# EAGLE library part M74HC133B1R (library ST_Microelctronics_By_element14_Batch_1)
13 INPUT NAND GATE
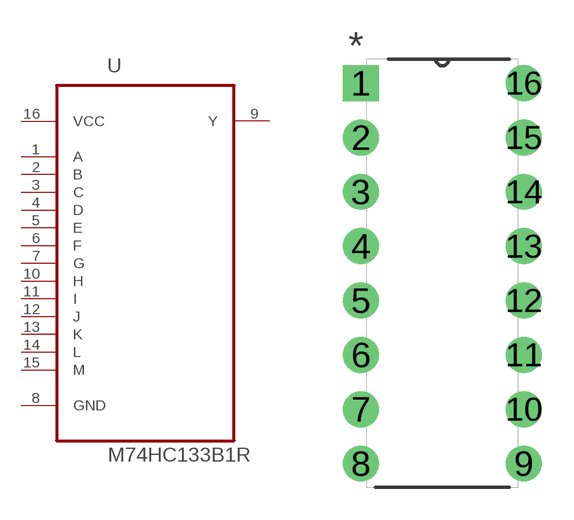
[diagram p217: symbol with the pads of DIP254P762X510-16; footprint DIP254P762X510-16]

Designator prefix U

## M74HC133B1R (MPN: M74HC133B1R; OC_FARNELL: 1282853; OC_NEWARK: 89K0859; PACKAGE: PDIP-16; SUPPLIER: STMICROELECTRONICS)  [DIP254P762X510-16]
1  A  in
2  B  in
3  C  in
4  D  in
5  E  in
6  F  in
7  G  in
8  GND  pas
9  Y  out
10  H  in
11  I  in
12  J  in
13  K  in
14  L  in
15  M  in
16  VCC  pwr

## Footprint DIP254P762X510-16 (pad centres in mm)
drill 1.118 square: 1 -7.62,17.78
drill 1.118: 2 -7.62,15.24; 3 -7.62,12.7; 4 -7.62,10.16; 5 -7.62,7.62; 6 -7.62,5.08; 7 -7.62,2.54; 8 -7.62,0; 9 0,0; 10 0,2.54; 11 0,5.08; 12 0,7.62; 13 0,10.16; 14 0,12.7; 15 0,15.24; 16 0,17.78